# EAGLE library part WE-FLEX (library EagleLibrary_Wuerth_Elektronik_eiSos_rev16a)
WE-FLEX Flexible Transformer for DC/DC Converter Characteristics Transformer with 6 identical windings 4 sizes with 5 different lengths of air gap each Insulation test voltage 500 VAC Low leakage inductance Operating temperature: –40 ºC to +125 ºC By using different circuits more than 375 transformer solutions and about 125 choke solutions possible. Consequently, quick prototyping possibilities Applications All kind of switching regulators -Flyback converters -Forward converters -Push-pull converters -Step-up/step-down converters -SEPIC converter <http://katalog.we-online.de/media/images/eisos/UtFlex_MID_pf2.jpg> Details see: http://katalog.we-online.de/en/pbs/WE-FLEX? Updated by Dan Xu 2014-07-07 2014 (C) Wurth Elektronik
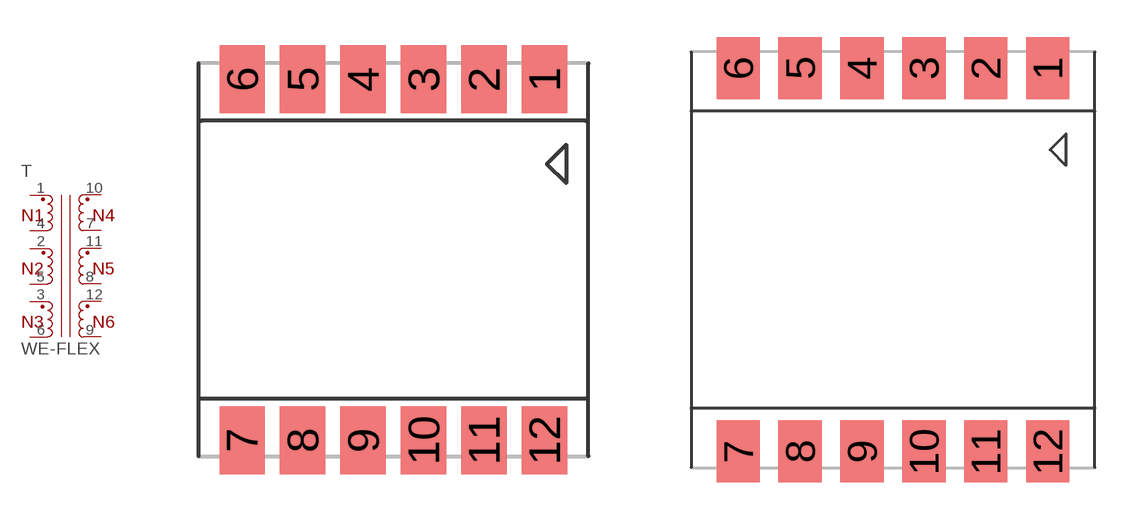
[diagram p8: symbol with the pads of WE-FLEX_ER11/5; footprints WE-FLEX_ER11/5, WE-FLEX_ER14.5/6]

Designator prefix T

## WE-FLEX_ER11/5  [WE-FLEX_ER11/5]
1  1  pas
2  11  pas
3  9  pas
4  12  pas
5  10  pas
6  8  pas
7  3  pas
8  5  pas
9  7  pas
10  2  pas
11  4  pas
12  6  pas

## WE-FLEX_ER14.5/6  [WE-FLEX_ER14.5/6]
1  1  pas
2  11  pas
3  9  pas
4  12  pas
5  10  pas
6  8  pas
7  7  pas
8  5  pas
9  3  pas
10  6  pas
11  4  pas
12  2  pas

## WE-FLEX_EFD15  [WE-FLEX_EFD15]
1  1  pas
2  11  pas
3  9  pas
4  2  pas
5  4  pas
6  6  pas
7  7  pas
8  5  pas
9  3  pas
10  8  pas
11  10  pas
12  12  pas

## WE-FLEX_EFD20  [WE-FLEX_EFD20]
Pads as for WE-FLEX_EFD15

## Footprint WE-FLEX_ER11/5 (pad centres in mm)
smd 1.5 x 2.25: 1 5,5.975; 2 3,5.975; 3 1,5.975; 4 -1,5.975; 5 -3,5.975; 6 -5,5.975; 7 -5,-5.975; 8 -3,-5.975; 9 -1,-5.975; 10 1,-5.975; 11 3,-5.975; 12 5,-5.975

## Footprint WE-FLEX_ER14.5/6 (pad centres in mm)
smd 1.75 x 2.5: 1 6.25,7.75; 2 3.75,7.75; 3 1.25,7.75; 4 -1.25,7.75; 5 -3.75,7.75; 6 -6.25,7.75; 7 -6.25,-7.75; 8 -3.75,-7.75; 9 -1.25,-7.75; 10 1.25,-7.75; 11 3.75,-7.75; 12 6.25,-7.75

## Footprint WE-FLEX_EFD15 (pad centres in mm)
smd 1.75 x 3.43: 1 6.35,10.155; 2 3.81,10.155; 3 1.27,10.155; 4 -1.27,10.155; 5 -3.81,10.155; 6 -6.35,10.155; 7 -6.35,-10.155; 8 -3.81,-10.155; 9 -1.27,-10.155; 10 1.27,-10.155; 11 3.81,-10.155; 12 6.35,-10.155

## Footprint WE-FLEX_EFD20 (pad centres in mm)
smd 2.25 x 3.5: 1 7.5,13.1; 2 4.5,13.1; 3 1.5,13.1; 4 -1.5,13.1; 5 -4.5,13.1; 6 -7.5,13.1; 7 -7.5,-13.1; 8 -4.5,-13.1; 9 -1.5,-13.1; 10 1.5,-13.1; 11 4.5,-13.1; 12 7.5,-13.1